# Altium footprint library nfc antenna.PcbLib: 1 footprints
Each footprint in its own frame and in the unit in brackets; x right, y up, seen from the top. Pads: shape width x height; smd on the part's side, far side on the other; paste and mask are expansions set on the pad; w line width, h text height; cw(c..) or ccw(c..) is an arc to the next point about the centre after c.
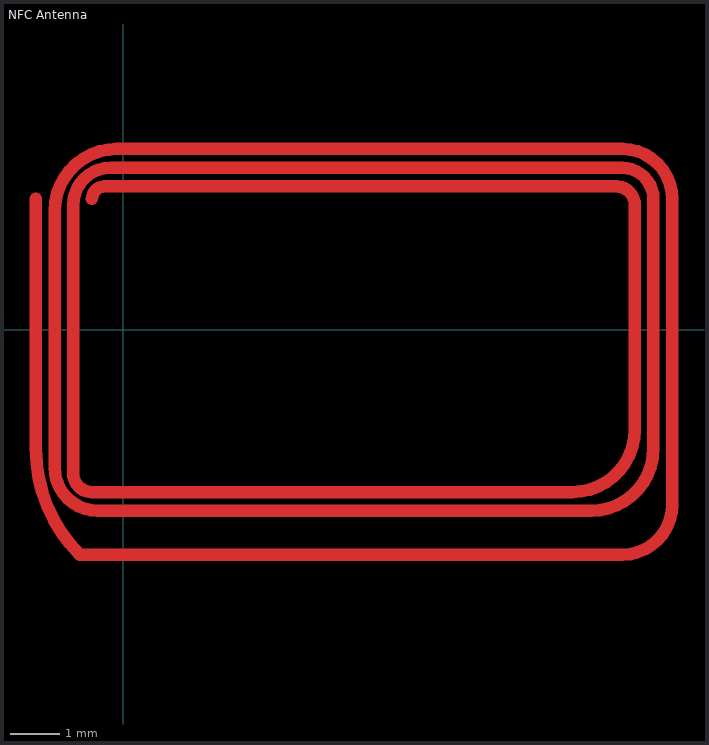
[diagram p0: the footprint, top view; thin cyan lines are the x and y axes]

## NFC Antenna [mm]
Top Layer:
  lines w0.254: -1.778,2.667 -1.778,-2.286 -1.778,-2.413 ccw(c1.288,-2.413) -0.88,-4.581 10.151,-4.581 ccw(c10.151,-3.556) 11.176,-3.556 11.176,2.667 ccw(c10.16,2.667) 10.16,3.683 -0.127,3.683 ccw(c-0.127,2.413) -1.397,2.413 -1.397,-2.794 ccw(c-0.508,-2.794) -0.508,-3.683 9.525,-3.683 ccw(c9.525,-2.413) 10.795,-2.413 10.795,2.658 ccw(c10.151,2.658) 10.151,3.302 -0.254,3.302 ccw(c-0.254,2.54) -1.016,2.54 -1.016,-2.921 ccw(c-0.635,-2.921) -0.635,-3.302 9.144,-3.302 ccw(c9.144,-2.032) 10.414,-2.032 10.414,2.54 ccw(c10.033,2.54) 10.033,2.921 -0.381,2.921 ccw(c-0.381,2.667) -0.635,2.667
  text "Fuck" at 1.016,-1.016 h1.52